# Altium schematic symbol library lab_10.SchLib: 4 symbols
Pins are listed as number, name and electrical type; pins without a type are passive.

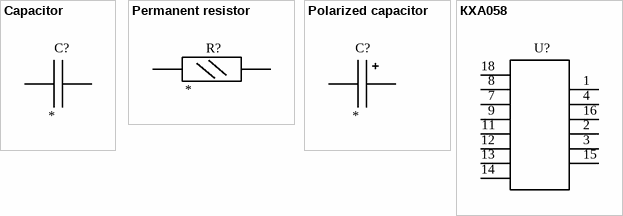
[diagram p0: symbols Capacitor to КХА058]

## Capacitor
designator C?
Capacity: *
footprint KM 6А-М750 (The capacitor with known capacity)
pins: 1, 2

## Permanent resistor
designator R?  (value not drawn)
Resistance: *
footprint МЛТ-1 (Permanent resistor(0,125 W))
pins: 1, 2

## Polarized capacitor
designator C?
Capacity: *
footprint K50 – 29 (The capacitor with known capacity (polarized))
pins: 1, 2

## КХА058
designator U?  (value not drawn)
КХА058 Analog chip (FM receiver)
footprint КХА058 (Analog chip (FM receiver))
pins: 1, 2, 3, 4, 7, 8, 9, 11, 12, 13, 14, 15, 16, 18